# EAGLE library part TPS24772RGER (library pimoroni-ics)
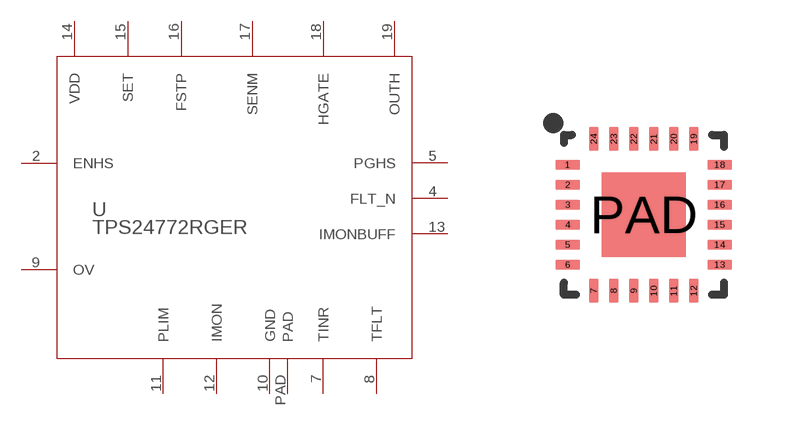
[diagram p173: symbol with the pads of QFN-24; footprint QFN-24]

Designator prefix U

## TPS24772RGER  [QFN-24]
2  ENHS  in
4  FLT_N  oc
5  PGHS  oc
7  TINR
8  TFLT
9  OV  in
10  GND  pwr
11  PLIM  in
12  IMON  hiz
13  IMONBUFF  out
14  VDD  pwr
15  SET  in
16  FSTP  in
17  SENM  in
18  HGATE  out
19  OUTH  in
PAD  PAD  pas

## Footprint QFN-24 (pad centres in mm)
smd 0.6 x 0.24: 1 -1.9,1.25; 2 -1.9,0.75; 3 -1.9,0.25; 4 -1.9,-0.25; 5 -1.9,-0.75; 6 -1.9,-1.25; 13 1.9,-1.25; 14 1.9,-0.75; 15 1.9,-0.25; 16 1.9,0.25; 17 1.9,0.75; 18 1.9,1.25
smd 0.24 x 0.6: 7 -1.25,-1.9; 8 -0.75,-1.9; 9 -0.25,-1.9; 10 0.25,-1.9; 11 0.75,-1.9; 12 1.25,-1.9; 19 1.25,1.9; 20 0.75,1.9; 21 0.25,1.9; 22 -0.25,1.9; 23 -0.75,1.9; 24 -1.25,1.9
smd 2.1 x 2.1: PAD 0,0